# EAGLE library part BFS17S (library IFXRFNPN)
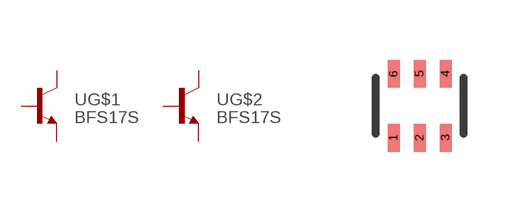
[diagram p0: symbol with the pads of SOT363; footprint SOT363]

Designator prefix -; gates G$1=NPN G$2=NPN

## BFS17S  [SOT363]
1  G$1:B  pas
2  G$1:E  pas
3  G$2:C  pas
4  G$2:B  pas
5  G$2:E  pas
6  G$1:C  pas

## Footprint SOT363 (pad centres in mm)
smd 0.3 x 0.7: 1 -0.65,-0.8; 2 0,-0.8; 3 0.65,-0.8; 4 0.65,0.8; 5 0,0.8; 6 -0.65,0.8